# EAGLE library part DSP_CARD_SLOT (library F030NG)
DSP add-on card socket, 46pin / TE 5650090-7
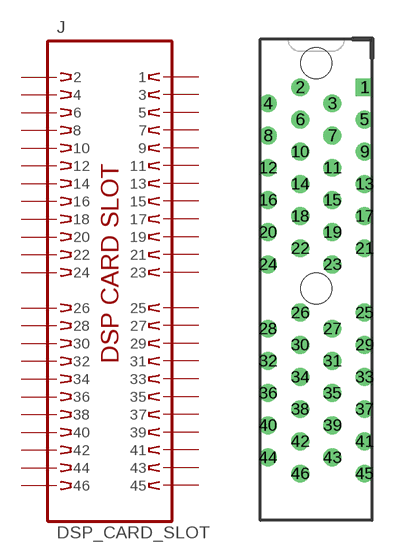
[diagram p73: symbol with the pads of TE_5650090-7; footprint TE_5650090-7]

Designator prefix J

## DSP_CARD_SLOT  [TE_5650090-7]
1  1  pas
2  2  pas
3  3  pas
4  4  pas
5  5  pas
6  6  pas
7  7  pas
8  8  pas
9  9  pas
10  10  pas
11  11  pas
12  12  pas
13  13  pas
14  14  pas
15  15  pas
16  16  pas
17  17  pas
18  18  pas
19  19  pas
20  20  pas
21  21  pas
22  22  pas
23  23  pas
24  24  pas
25  25  pas
26  26  pas
27  27  pas
28  28  pas
29  29  pas
30  30  pas
31  31  pas
32  32  pas
33  33  pas
34  34  pas
35  35  pas
36  36  pas
37  37  pas
38  38  pas
39  39  pas
40  40  pas
41  41  pas
42  42  pas
43  43  pas
44  44  pas
45  45  pas
46  46  pas

## Footprint TE_5650090-7 (pad centres in mm)
PIN HEADER
drill 0.9 pad 1.27 square: 1 3.81,15.88
drill 0.9 pad 1.27: 2 -1.27,15.88; 3 1.27,14.61; 4 -3.81,14.61; 5 3.81,13.34; 6 -1.27,13.34; 7 1.27,12.07; 8 -3.81,12.07; 9 3.81,10.8; 10 -1.27,10.8; 11 1.27,9.53; 12 -3.81,9.53; 13 3.81,8.26; 14 -1.27,8.26; 15 1.27,6.99; 16 -3.81,6.99; 17 3.81,5.72; 18 -1.27,5.72; 19 1.27,4.45; 20 -3.81,4.45; 21 3.81,3.18; 22 -1.27,3.18; 23 1.27,1.91; 24 -3.81,1.91; 25 3.81,-1.9; 26 -1.27,-1.9; 27 1.27,-3.17; 28 -3.81,-3.17; 29 3.81,-4.44; 30 -1.27,-4.44; 31 1.27,-5.71; 32 -3.81,-5.71; 33 3.81,-6.98; 34 -1.27,-6.98; 35 1.27,-8.25; 36 -3.81,-8.25; 37 3.81,-9.52; 38 -1.27,-9.52; 39 1.27,-10.79; 40 -3.81,-10.79; 41 3.81,-12.06; 42 -1.27,-12.06; 43 1.27,-13.33; 44 -3.81,-13.33; 45 3.81,-14.6; 46 -1.27,-14.6
hole 2.45 at 0,0
hole 2.45 at 0,17.78